# EAGLE library part USB_MICRO-B (library 3D_MIG_Controller)
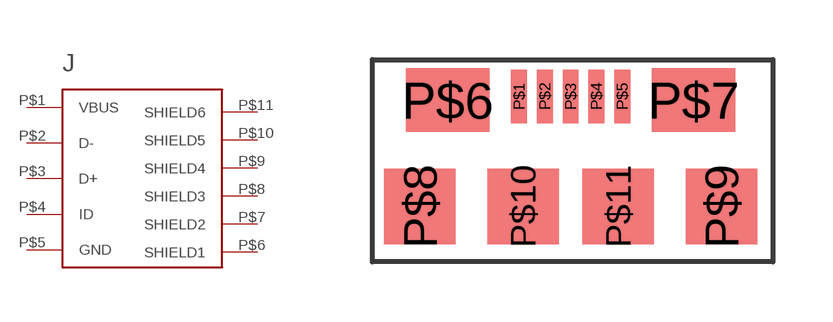
[diagram p33: symbol with the pads of USB_MICRO-B; footprint USB_MICRO-B]

Designator prefix J

## USB_MICRO-B (PARTNO: 10118192-0002LF; VALUE: USB-B-Micro)  [USB_MICRO-B]
P$1  VBUS
P$2  D-
P$3  D+
P$4  ID
P$5  GND
P$6  SHIELD1
P$7  SHIELD2
P$8  SHIELD3
P$9  SHIELD4
P$10  SHIELD5
P$11  SHIELD6

## Footprint USB_MICRO-B (pad centres in mm)
USB Type Mini-B Surface Mounted Specifications: Pin count: 5 main, 4 shield pins Datasheet referenced for footprint <https://www.sparkfun.com/datasheets/Prototyping/miniUSB-Dimensional.pdf> Example device(s): USB_Mini-B
smd 0.4 x 1.35: P$1 -1.3,2.77; P$2 -0.65,2.77; P$3 0,2.77; P$4 0.65,2.77; P$5 1.3,2.77
smd 2.1 x 1.6: P$6 -3.1,2.675; P$7 3.1,2.675
smd 1.8 x 1.9: P$8 -3.8,0; P$9 3.8,0; P$10 -1.2,0; P$11 1.2,0